# Altium footprint library AB_SF.PcbLib: 43 footprints (part 2 of 3)
Each footprint in its own frame and in the unit in brackets; x right, y up, seen from the top. Pads: shape width x height; smd on the part's side, far side on the other; paste and mask are expansions set on the pad; w line width, h text height; cw(c..) or ccw(c..) is an arc to the next point about the centre after c.
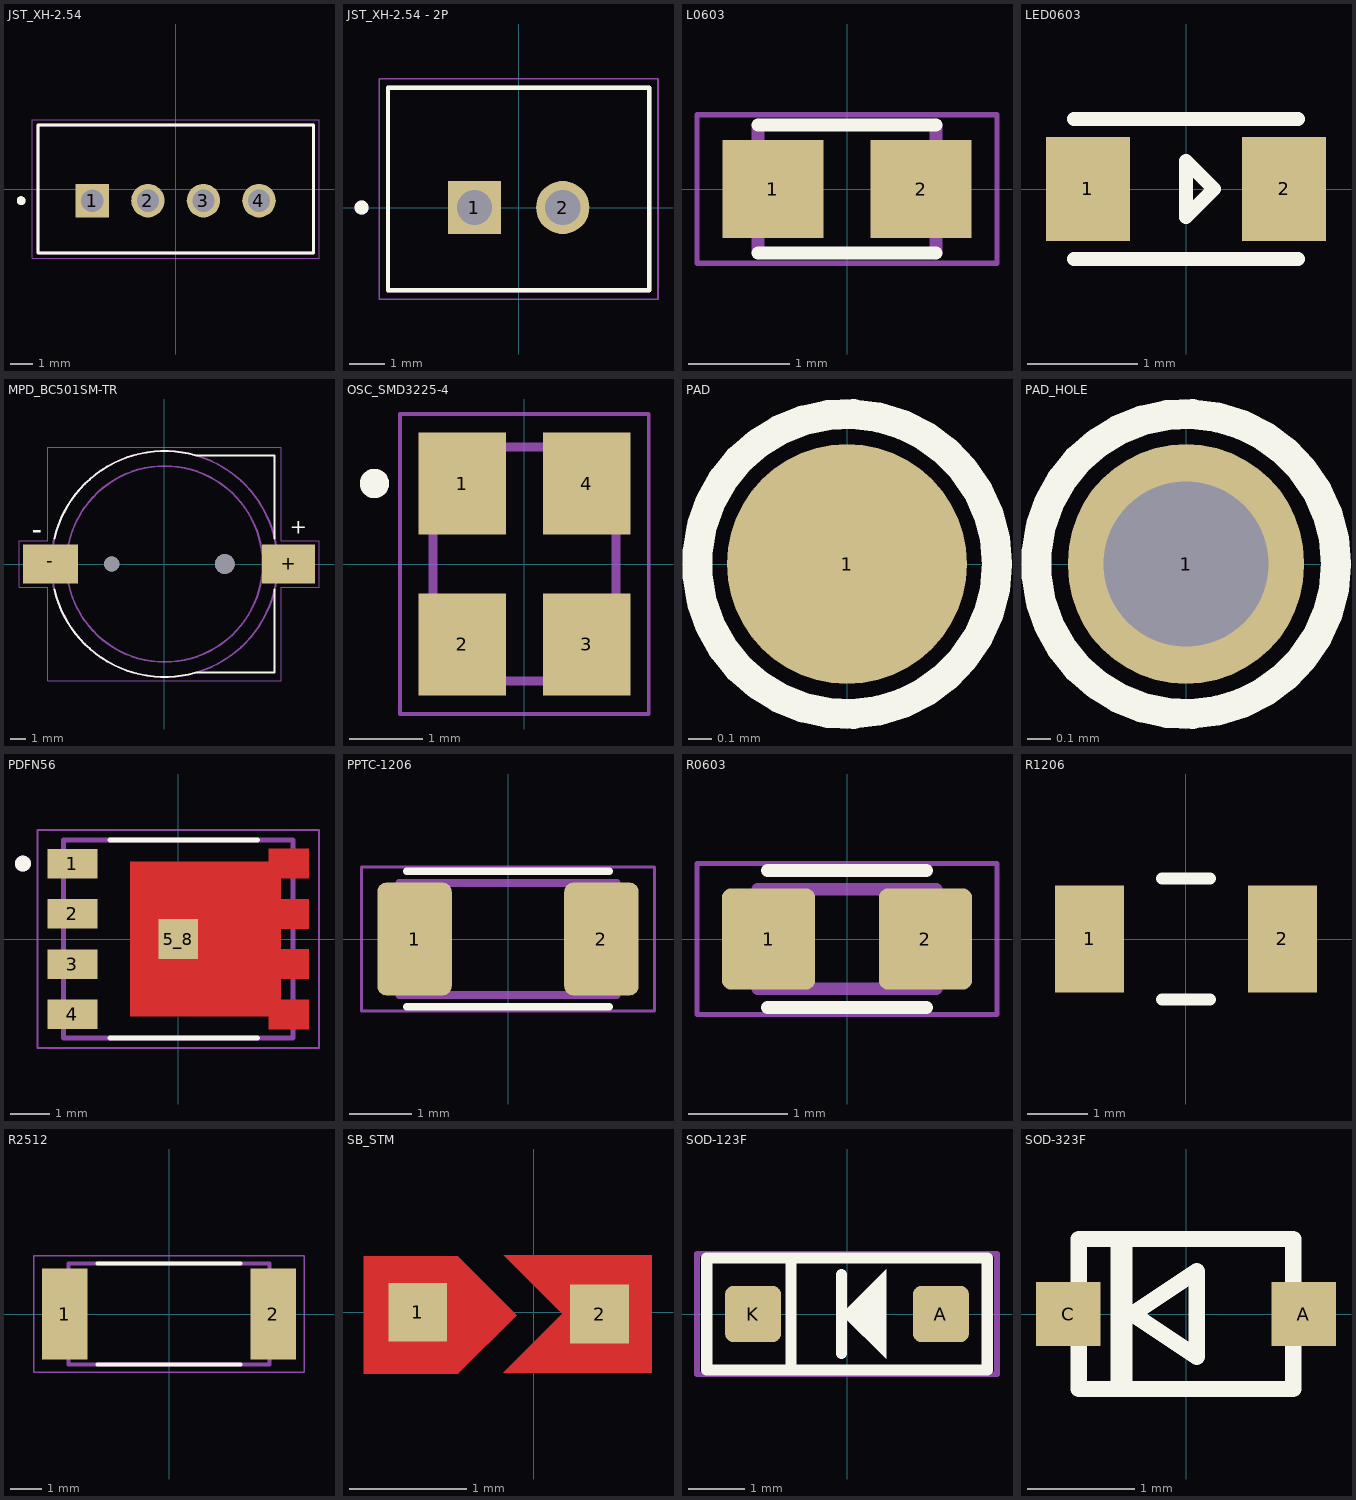
[diagram p1: the footprints below, top view; thin cyan lines are the x and y axes]

## JST_XH-2.54 [mm]
height 7
pads (4):
  rect 1.508x1.508 / inner round 1.508 / far side rect 1.508x1.508 hole 1: 1(-3.75,-0.525)
  round 1.508 hole 1: 2(-1.25,-0.525) 3(1.25,-0.525) 4(3.75,-0.525)
Top Overlay:
  circle w0.2: c-6.95,-0.525 r0.1
  lines w0.127: -6.2,-2.875 -6.2,2.875 6.2,2.875 6.2,-2.875 -6.2,-2.875
Mechanical 13:
  circle w0.2: c-6.95,-0.525 r0.1
  lines w0.127: -6.2,-2.875 -6.2,2.875 6.2,2.875 6.2,-2.875 -6.2,-2.875
Mechanical 15:
  lines w0.05: -6.45,-3.125 6.45,-3.125 6.45,3.125 -6.45,3.125 -6.45,-3.125
3D body "step_temp.STEP": height 7, standoff -3.4, extent -6.2,-2.875 6.2,2.875

## JST_XH-2.54 - 2P [mm]
height 7
pads (2):
  rect 1.508x1.508 / inner round 1.508 / far side rect 1.508x1.508 hole 1: 1(-1.25,0)
  round 1.508 hole 1: 2(1.25,0)
Top Overlay:
  circle w0.2: c-4.45,0 r0.1
  lines w0.127: -3.7,-2.35 3.7,-2.35 3.7,3.4 -3.7,3.4 -3.7,-2.35
Mechanical 13:
  circle w0.2: c-4.45,0 r0.1
  lines w0.127: -3.7,-2.35 3.7,-2.35 3.7,3.4 -3.7,3.4 -3.7,-2.35
Mechanical 15:
  lines w0.05: -3.95,-2.6 -3.95,3.65 3.95,3.65 3.95,-2.6 -3.95,-2.6
3D body "JST - XH - Thru (V) - 2Pin - 2.54mm.stp": height 7.21, standoff -3, extent -3.647,-2.472 3.567,3.37

## L0603 [mm]
pads (2):
  rect 1x0.97 smd: 1(-0.735,0) 2(0.735,0)
Top Overlay:
  lines w0.127: -0.88,-0.635 0.88,-0.635 ; -0.88,0.635 0.88,0.635
Mechanical 13:
  lines w0.127: -0.88,-0.635 -0.88,0.635 ; 0.88,-0.635 0.88,0.635
Mechanical 15:
  lines w0.05: -1.485,-0.735 1.485,-0.735 1.485,0.735 -1.485,0.735 -1.485,-0.735
3D body "LQM18PNR47NFRL.STEP": height 0.95, standoff 0, extent -0.8,-0.4 0.8,0.4

## LED0603 [mil] "LED SMT Pad"
pads (2):
  rect 30x37 smd: 1(-35,0) 2(35,0)
Top Overlay:
  lines w5: -40,-25 40,-25 ; -40,25 40,25 ; 0,-10 0,10 10,0 0,-10
3D body "User Library-LED SMD0603.step": height 26.76, standoff 0.19, extent -32.48,-15 32.48,13.54

## MPD_BC501SM-TR [mm]
pads (4):
  rect 3.54x2.6 smd: +(8.23,0)
  rect 3.66x2.6 smd: -(-7.57,0)
  round 1 hole 1 unplated: ""(-3.5,0)
  round 1.3 hole 1.3 unplated: ""(4,0)
Top Overlay:
  lines w0.127: -7.305,-1.679 ccw(c0.01,0.01) 2.079,-7.206 ; -7.305,1.679 cw(c0.01,-0.01) 2.079,7.206 ; 2.1,-7.2 7.3,-7.2 7.3,-1.7 ; 2.1,7.2 7.3,7.2 7.3,1.7
  text "+" at 8.3,2 h1.02
  text "-" at -8.8,1.6 h1.42
Mechanical 13:
  circle w0.127: c0,0 r7.5
  circle w0.127: c0.01,0 r6.5
Mechanical 15:
  lines w0.05: -9.65,-1.55 -7.75,-1.55 -7.75,-7.75 7.75,-7.75 7.75,-1.55 10.25,-1.55 10.25,1.55 7.75,1.55 7.75,7.75 -7.75,7.75 -7.75,1.55 -9.65,1.55 -9.65,-1.55
3D body "BatteryCaseCR1220.STEP": height 4.85, standoff 0, extent -9.3,-7.45 9.8,7.45

## OSC_SMD3225-4 [mm]
pads (4):
  rect 1.2x1.4 smd: 1(-0.85,1.1) 2(-0.85,-1.1) 3(0.85,-1.1) 4(0.85,1.1)
Top Overlay:
  circle w0.2: c-2.05,1.1 r0.1
Mechanical 13:
  circle w0.2: c-2.05,1.1 r0.1
  lines w0.127: -1.25,-1.6 -1.25,1.6 1.25,1.6 1.25,-1.6 -1.25,-1.6
Mechanical 15:
  lines w0.05: -1.7,-2.05 -1.7,2.05 1.7,2.05 1.7,-2.05 -1.7,-2.05
3D body "X322516MLB4SI--3DModel-STEP-269445.STEP": height 0.8, standoff 0, extent -1.25,-1.6 1.25,1.6

## PAD [mil] "Solder Pad"
pads (1):
  round 40 smd: 1(0,0)
Top Overlay:
  circle w5: c0,0 r25

## PAD_HOLE [mm] "Solder Pad"
pads (1):
  oval 1x1.016 hole 0.7: 1(0,0)
Top Overlay:
  circle w0.127: c0,0 r0.635

## PDFN56 [mm]
pads (5):
  rect 1.27x0.75 smd: 1(-2.67,1.905) 2(-2.67,0.635) 3(-2.67,-0.635) 4(-2.67,-1.905)
  rect 1x1 smd paste-1 mask+0: 5_8(0,0)
Top Layer:
  region: 3.305,1.53 2.595,1.53 2.595,1.01 3.305,1.01 3.305,0.26 2.595,0.26 2.595,-0.26 3.305,-0.26 3.305,-1.01 2.595,-1.01 2.595,-1.53 3.305,-1.53 3.305,-2.28 2.285,-2.28 2.285,-1.955 -1.215,-1.955 -1.215,1.955 2.285,1.955 2.285,2.28 3.305,2.28
Top Overlay:
  circle w0.2: c-3.92,1.905 r0.1
  lines w0.127: -1.715,-2.5 2,-2.5 ; -1.715,2.5 2,2.5
Top Paste:
  region: 3.31,-2.285 2.6,-2.285 2.6,-1.525 3.31,-1.525
  region: 3.31,-1.015 2.6,-1.015 2.6,-0.255 3.31,-0.255
  region: 3.31,0.255 2.6,0.255 2.6,1.015 3.31,1.015
  region: 3.31,1.525 2.6,1.525 2.6,2.285 3.31,2.285
  region: 0.455,-1.485 -0.745,-1.485 -0.745,-0.235 0.455,-0.235
  region: 2.125,-1.485 0.925,-1.485 0.925,-0.235 2.125,-0.235
  region: 2.125,0.235 0.925,0.235 0.925,1.485 2.125,1.485
  region: 0.455,0.235 -0.745,0.235 -0.745,1.485 0.455,1.485
Top Solder:
  region: 3.405,1.43 2.695,1.43 2.695,1.11 3.405,1.11 3.405,0.16 2.695,0.16 2.695,-0.16 3.405,-0.16 3.405,-1.11 2.695,-1.11 2.695,-1.43 3.405,-1.43 3.405,-2.38 2.185,-2.38 2.185,-2.055 -1.315,-2.055 -1.315,2.055 2.185,2.055 2.185,2.38 3.405,2.38
Mechanical 13:
  circle w0.2: c-3.92,1.905 r0.1
  lines w0.127: -2.9,-2.5 2.9,-2.5 2.9,2.5 -2.9,2.5 -2.9,-2.5
Mechanical 15:
  lines w0.05: -3.555,-2.75 3.56,-2.75 3.56,2.75 -3.555,2.75 -3.555,-2.75
3D body "step_temp.STEP": height 1.15, standoff 0, extent -3,-2.45 3,2.45

## PPTC-1206 [mm]
pads (2):
  rrect25% 1.2x1.82 smd: 1(-1.505,0) 2(1.505,0)
Top Overlay:
  lines w0.127: -1.63,-1.09 1.63,-1.09 ; -1.63,1.09 1.63,1.09
Mechanical 13:
  lines w0.127: -1.75,-0.9 1.75,-0.9 ; -1.75,0.9 1.75,0.9
Mechanical 15:
  lines w0.05: -2.36,-1.16 -2.36,1.16 2.36,1.16 2.36,-1.16 -2.36,-1.16
3D body "0ZCJ0075AF2E.STEP": height 0.83, standoff -0.02, extent -1.625,-0.825 1.625,0.825

## R0603 [mm]
pads (2):
  rrect20% 0.94x1.02 smd: 1(-0.79,0) 2(0.79,0)
Top Overlay:
  lines w0.127: -0.8,-0.69 0.8,-0.69 ; -0.8,0.69 0.8,0.69
Mechanical 13:
  lines w0.127: -0.9,-0.5 0.9,-0.5 0.9,0.5 -0.9,0.5 -0.9,-0.5
Mechanical 15:
  lines w0.05: -1.51,-0.76 1.51,-0.76 1.51,0.76 -1.51,0.76 -1.51,-0.76
3D body "ERJ-U03F32R4V.STEP": height 0.45, standoff 0, extent -0.8,-0.4 0.8,0.4

## R1206 [mil] "SOD-323; 2 Leads; Body 2.7 x 1.6 mm, (LxW)"
height 53.15
pads (2):
  rect 45x70 smd: 1(-62.99,0) 2(62.99,0)
Top Overlay:
  lines w8: -15.75,-39.53 15.75,-39.53 ; -15.75,39.53 15.75,39.53
3D body "User Library-CR3216-1206.step": height 23.62, standoff 0, extent -62.99,-31.49 62.99,31.5

## R2512 [mm]
height 0.6
pads (2):
  rect 1.45x2.9 smd: 1(-3.325,0) 2(3.325,0)
Top Overlay:
  lines w0.127: -2.28,-1.6 2.28,-1.6 ; -2.28,1.6 2.28,1.6
Mechanical 13:
  lines w0.127: -3.2,-1.6 3.2,-1.6 3.2,1.6 -3.2,1.6 -3.2,-1.6
Mechanical 15:
  lines w0.05: -4.3,-1.85 4.3,-1.85 4.3,1.85 -4.3,1.85 -4.3,-1.85
3D body "step_temp.STEP": height 0.6, standoff 0, extent -3.2,-1.6 3.2,1.6

## SB_STM [mm] "solder bridge"
pads (2):
  rect 0.5x0.5 smd: 1(-0.991,0) 2(0.559,-0.016)
Top Layer:
  region: -1.448,-0.525 -1.448,0.475 -0.648,0.475 -0.148,-0.025 -0.648,-0.525
  region: -0.255,0.484 0.241,-0.013 -0.262,-0.516 1.001,-0.516 1.001,0.484
Top Solder:
  region: -1.499,0.534 1.056,0.534 1.056,-0.566 -1.499,-0.566

## SOD-123F [mm] "SMD"
pads (2):
  rrect30% 1x1 smd: A(1.675,0) K(-1.675,0)
Top Overlay:
  region: -0.1,0 0.7,0.8 0.7,-0.8
  lines w0.2: -1,-1 -1,1 ; -0.1,-0.7 -0.1,0.7 ; -2.5,-1 -2.5,1 2.5,1 2.5,-1 -2.5,-1
Mechanical 15:
  lines w0.1: -2.675,-1.075 -2.675,1.075 2.675,1.075 2.675,-1.075 -2.675,-1.075
3D body "p35_SOD-123F.stp": height 1, standoff 0, extent -1.9,-0.8 1.9,0.8

## SOD-323F [mm]
pads (2):
  rect 0.6x0.6 smd: A(1.1,0) C(-1.1,0)
Top Overlay:
  region: -0.5,-0.7 -0.7,-0.7 -0.7,0.7 -0.5,0.7
  lines w0.152: -1,-0.7 1,-0.7 1,0.7 -1,0.7 -1,-0.7 ; -0.5,0 0.1,0.4 0.1,-0.4 -0.5,0
3D body "MM3Z5V6C.STEP": height 0.93, standoff 0.03, extent -1.25,-0.625 1.25,0.625